# Altium footprint library NewLibrary.PcbLib: 126 footprints (part 3 of 8)
Each footprint in its own frame and in the unit in brackets; x right, y up, seen from the top. Pads: shape width x height; smd on the part's side, far side on the other; paste and mask are expansions set on the pad; w line width, h text height; cw(c..) or ccw(c..) is an arc to the next point about the centre after c.
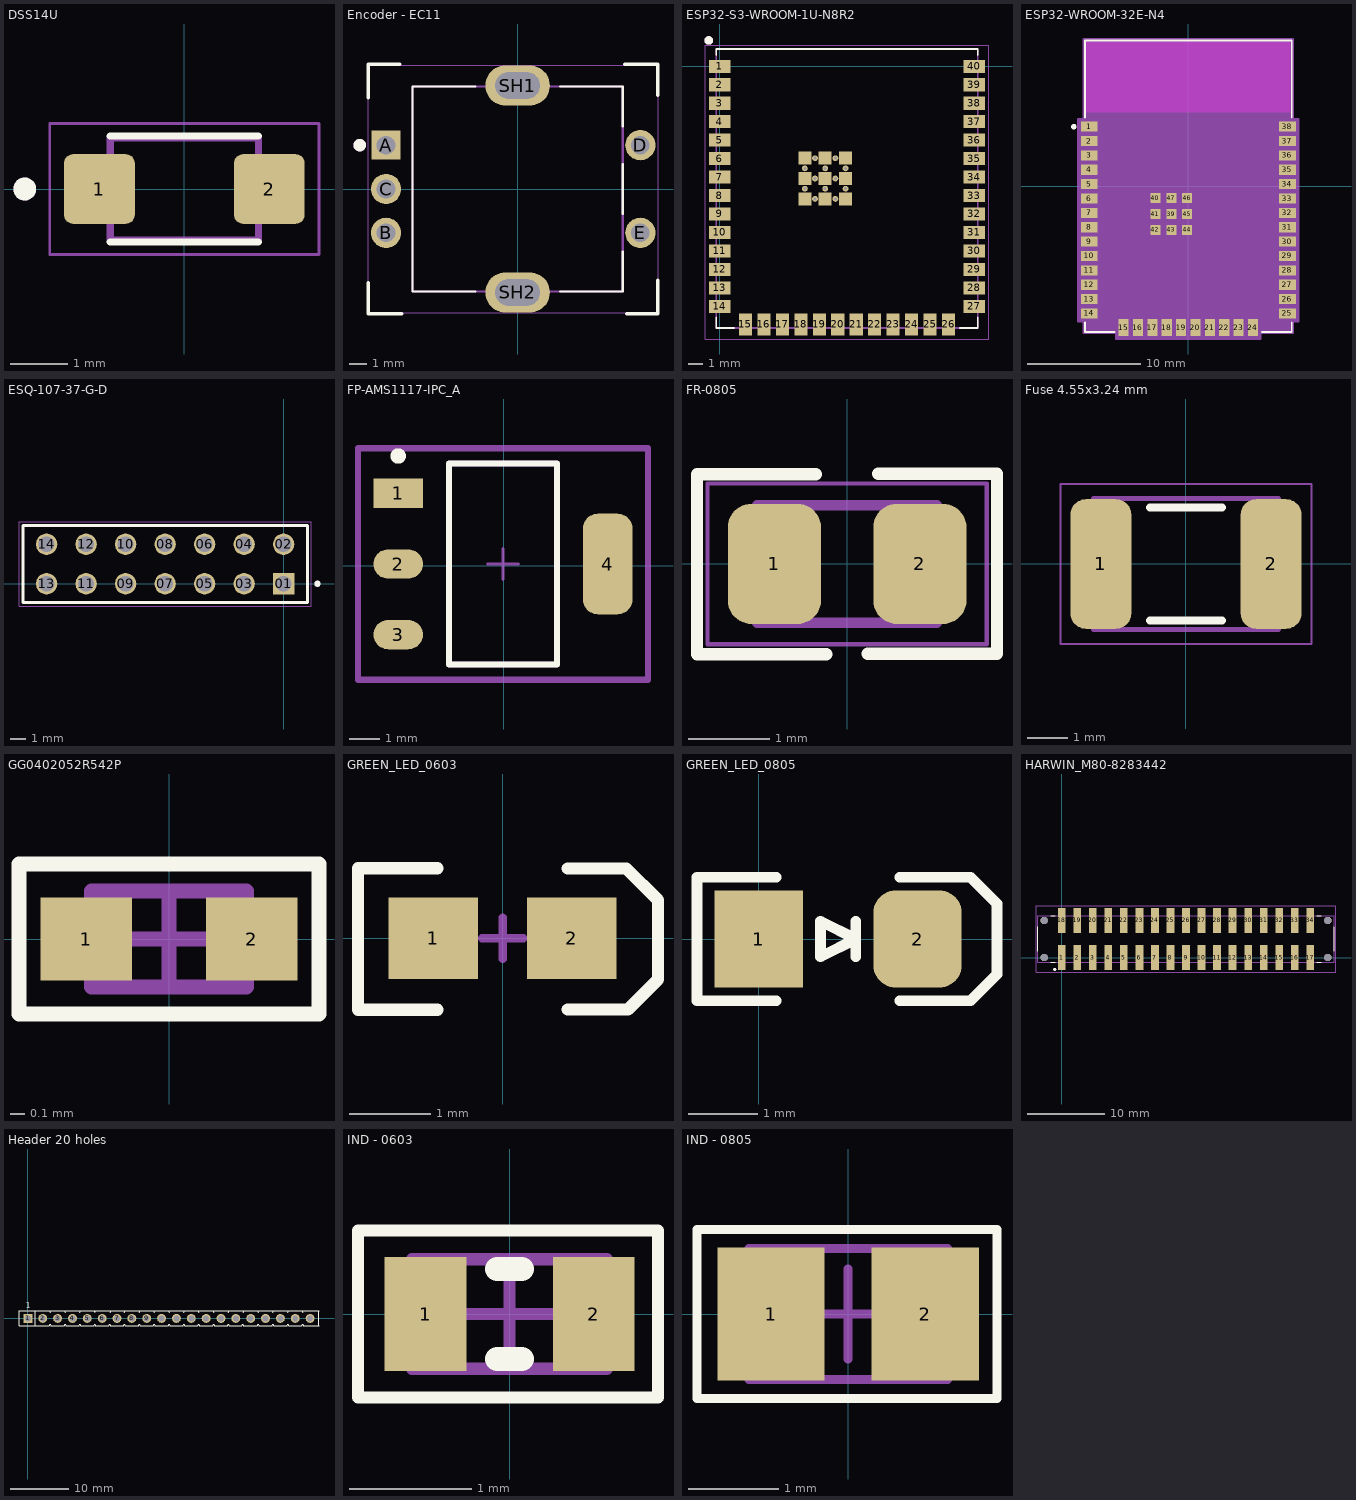
[diagram p2: the footprints below, top view; thin cyan lines are the x and y axes]

## DSS14U [mm] "Diode Schottky 40 V 1A Surface Mount SOD-123FL"
pads (2):
  rrect25% 1.24x1.22 smd: 1(-1.49,0) 2(1.49,0)
Top Overlay:
  circle w0.2: c-2.8,0 r0.1
  lines w0.127: -1.3,-0.93 1.3,-0.93 ; -1.3,0.93 1.3,0.93
Mechanical 13:
  circle w0.2: c-2.8,0 r0.1
  lines w0.127: -1.3,-0.9 -1.3,0.9 1.3,0.9 1.3,-0.9 -1.3,-0.9
Mechanical 15:
  lines w0.05: -2.36,-1.15 -2.36,1.15 2.36,1.15 2.36,-1.15 -2.36,-1.15
3D body "DSS14UTR.STEP": height 1.13, standoff 0.03, extent -1.749,-0.849 1.851,0.951

## Encoder - EC11 [mil]
pads (7):
  rect 65x65 / inner round 65 / far side rect 65x65 hole 42: A(-295.28,98.43)
  round 68 hole 42: B(-295.28,-98.43) C(-295.28,0) D(275.59,98.43) E(275.59,-98.43)
  oval 145x90 hole 60 slot 100 at 0 deg: SH1(0,232.28) SH2(0,-232.28)
Top Overlay:
  circle w20: c-354.33,98.43 r3.94
  lines w5: -95,-230.31 -236.22,-230.31 -236.22,230.31 -95,230.31 ; 95,-230.31 236.22,-230.31 236.22,-140.71 ; 95,230.31 236.22,230.31 236.22,140.71 ; 236.22,-56.14 236.22,56.14
  lines w8: -335,-210 -335,-280 -260,-280 ; -335,205 -335,280 -265,280 ; 240,280 315,280 315,210 ; 245,-280 315,-280 315,-205
Mechanical 13:
  circle w20: c-354.33,98.43 r3.94
  lines w5: -236.22,-230.31 236.22,-230.31 236.22,230.31 -236.22,230.31 -236.22,-230.31
Mechanical 15:
  lines w1.97: -334.8,-277.56 -334.8,277.56 315.12,277.56 315.12,-277.56 -334.8,-277.56
3D body "pec11r-4015f-s0024.SLDPRT": height 833.86, standoff -158.15, extent -303.15,-275.51 283.46,275.51

## ESP32-S3-WROOM-1U-N8R2 [mm] "SMD"
pads (61):
  rect 1.5x0.9 smd: 1(0,0) 2(0,-1.27) 3(0,-2.54) 4(0,-3.81) 5(0,-5.08) 6(0,-6.35) 7(0,-7.62) 8(0,-8.89) 9(0,-10.16) 10(0,-11.43) 11(0,-12.7) 12(0,-13.97) 13(0,-15.24) 14(0,-16.51) 27(17.5,-16.51) 28(17.5,-15.24) 29(17.5,-13.97) 30(17.5,-12.7) 31(17.5,-11.43) 32(17.5,-10.16) 33(17.5,-8.89) 34(17.5,-7.62) 35(17.5,-6.35) 36(17.5,-5.08) 37(17.5,-3.81) 38(17.5,-2.54) 39(17.5,-1.27) 40(17.5,0)
  rect 0.9x1.5 smd: 15(1.765,-17.76) 16(3.035,-17.76) 17(4.305,-17.76) 18(5.575,-17.76) 19(6.845,-17.76) 20(8.115,-17.76) 21(9.385,-17.76) 22(10.655,-17.76) 23(11.925,-17.76) 24(13.195,-17.76) 25(14.465,-17.76) 26(15.735,-17.76)
  rect 0.9x0.9 smd: 41_1(5.85,-6.32) 41_2(7.25,-6.32) 41_3(8.65,-6.32) 41_4(5.85,-7.72) 41_5(7.25,-7.72) 41_6(8.65,-7.72) 41_7(5.85,-9.12) 41_8(7.25,-9.12) 41_9(8.65,-9.12)
  round 0.4 hole 0.2 mask+0: 41_10(6.55,-6.32) 41_11(7.95,-6.32) 41_12(5.85,-7.02) 41_13(7.25,-7.02) 41_14(8.65,-7.02) 41_15(6.55,-7.72) 41_16(7.95,-7.72) 41_17(5.85,-8.42) 41_18(7.25,-8.42) 41_19(8.65,-8.42) 41_20(6.55,-9.12) 41_21(7.95,-9.12)
Top Overlay:
  circle w0.381: c-0.762,1.778 r0.1
  lines w0.127: -0.25,-17.28 -0.25,-18.01 0.995,-18.01 ; -0.25,0.77 -0.25,1.19 17.75,1.19 17.75,0.77 ; 16.505,-18.01 17.75,-18.01 17.75,-17.28
Mechanical 13:
  circle w0.381: c-0.762,1.778 r0.1
  lines w0.127: -0.25,-18.01 17.75,-18.01 17.75,1.19 -0.25,1.19 -0.25,-18.01
Mechanical 15:
  lines w0.05: -1,-18.76 -1,1.44 18.5,1.44 18.5,-18.76 -1,-18.76
3D body "step_temp.STEP": height 3.35, standoff 0, extent -0.25,-18.01 17.75,1.19

## ESP32-WROOM-32E-N4 [mil] "SMD"
pads (47):
  rect 59x35 smd paste+0 mask+0: 1(-344.5,207.1) 2(-344.5,157.1) 3(-344.5,107.1) 4(-344.5,57.1) 5(-344.5,7.1) 6(-344.5,-42.9) 7(-344.5,-92.9) 8(-344.5,-142.9) 9(-344.5,-192.9) 10(-344.5,-242.9) 11(-344.5,-292.9) 12(-344.5,-342.9) 13(-344.5,-392.9) 14(-344.5,-442.9) 25(344.5,-442.9) 26(344.5,-392.9) 27(344.5,-342.9) 28(344.5,-292.9) 29(344.5,-242.9) 30(344.5,-192.9) 31(344.5,-142.9) 32(344.5,-92.9) 33(344.5,-42.9) 34(344.5,7.1) 35(344.5,57.1) 36(344.5,107.1) 37(344.5,157.1) 38(344.5,207.1)
  rect 35x59 smd paste+0 mask+0: 15(-225,-492.15) 16(-175,-492.15) 17(-125,-492.15) 18(-75,-492.15) 19(-25,-492.15) 20(25,-492.15) 21(75,-492.15) 22(125,-492.15) 23(175,-492.15) 24(225,-492.15)
  rect 35x35 smd paste+0 mask+0: 39(-59.1,-96.9) 40(-114.2,-41.8) 41(-114.2,-96.9) 42(-114.2,-152) 43(-59.1,-152) 44(-4,-152) 45(-4,-96.9) 46(-4,-41.8) 47(-59.1,-41.8)
Top Overlay:
  circle w15: c-398,207 r1.97
  lines w6: -359.5,-473.5 -359.5,-507 -255.6,-507 ; -359.5,237.7 -359.5,507 359.5,507 359.5,237.7 ; 255.6,-507 359.5,-507 359.5,-473.5
Keep-Out Layer:
  region: 354.5,258 354.5,502 -354.5,502 -354.5,258
Mechanical 13:
  lines w1: -354.5,-502 -354.5,502 354.5,502 354.5,-502 -354.5,-502
Mechanical 15:
  region: -364.5,-512 -252.5,-512 -252.5,-531.65 252.5,-531.65 252.5,-512 364.5,-512 364.5,-470.4 384,-470.4 384,234.6 364.5,234.6 364.5,512 -364.5,512 -364.5,234.6 -384,234.6 -384,-470.4 -364.5,-470.4
  lines w6: -384,-470.4 -364.5,-470.4 -364.5,-512 -252.5,-512 -252.5,-531.65 252.5,-531.65 252.5,-512 364.5,-512 364.5,-470.4 384,-470.4 384,234.6 364.5,234.6 364.5,512 -364.5,512 -364.5,234.6 -384,234.6 -384,-470.4
3D body "ESP32-WROOM-32E-N4.STEP": height 128.95, standoff 1, extent -354.33,-501.97 354.33,501.97

## ESQ-107-37-G-D [mm] "CONN SOCKET 14POS 0.1 GOLD PCB"
pads (14):
  rect 1.37x1.37 hole 1.02: 01(0,0)
  round 1.37 hole 1.02: 02(0,2.54) 03(-2.54,0) 04(-2.54,2.54) 05(-5.08,0) 06(-5.08,2.54) 07(-7.62,0) 08(-7.62,2.54) 09(-10.16,0) 10(-10.16,2.54) 11(-12.7,0) 12(-12.7,2.54) 13(-15.24,0) 14(-15.24,2.54)
Top Overlay:
  circle w0.2: c2.175,0 r0.1
  lines w0.2: -16.765,-1.205 -16.765,3.745 1.525,3.745 1.525,-1.205 -16.765,-1.205
Mechanical 13:
  circle w0.2: c2.175,0 r0.1
  lines w0.1: -16.765,-1.205 -16.765,3.745 ; -16.765,-1.205 1.525,-1.205 ; -16.765,-1.205 -16.765,3.745 ; -16.765,3.745 1.525,3.745 ; -16.765,3.745 1.525,3.745 ; 1.525,-1.205 1.525,3.745 ; 1.525,-1.205 1.525,3.745
Mechanical 15:
  lines w0.05: -17.015,-1.455 -17.015,3.995 1.775,3.995 1.775,-1.455 -17.015,-1.455
3D body "ESQ-107-37-G-D.stp": height 11.53, standoff -1.81, extent -16.764,-1.27 1.524,3.81

## FP-AMS1117-IPC_A [mil]
pads (4):
  rect 63.16x37.49 smd paste+0 mask+0: 1(-134.66,92.16)
  rrect100% 63.16x37.49 smd paste+0 mask+0: 2(-134.66,2) 3(-134.66,-88.16)
  rrect59% 63.16x128.43 smd paste+0 mask+0: 4(132.66,2)
Top Overlay:
  circle w9.84: c-134.66,139.8 r4.92
  lines w7.87: -70,-126.05 -70,130.05 68,130.05 68,-126.05 -70,-126.05
Top 3D Body:
  lines w7.87: -70,-126.05 -70,130.05 68,130.05 68,-126.05 -70,-126.05
Board:
  lines w7.87: -185.93,-145.74 -185.93,149.74 183.93,149.74 183.93,-145.74 -185.93,-145.74
Top Assembly:
  lines w7.87: -185.93,-145.74 -185.93,149.74 183.93,149.74 183.93,-145.74 -185.93,-145.74
Top Component Center:
  lines w3.94: -20.68,2 18.68,2 ; -1,-17.68 -1,21.68
3D body "IC_Advanced_Monolithic_Systems_AMS1117-3_3_eec.STEP": height 10, standoff 0, extent -185.93,-145.74 183.93,149.74

## FR-0805 [mm] "SMD"
pads (2):
  rrect50% 1.14x1.47 smd: 1(-0.89,0) 2(0.89,0)
Top Overlay:
  lines w0.152: -0.381,1.097 -1.837,1.097 -1.837,-1.103 -0.254,-1.103 ; 0.251,-1.099 1.834,-1.099 1.834,1.1 0.378,1.1
Mechanical 13:
  lines w0.127: -1.1,-0.72 -1.1,0.72 1.1,0.72 1.1,-0.72 -1.1,-0.72
Mechanical 15:
  lines w0.05: -1.708,-0.983 -1.708,0.983 1.708,0.983 1.708,-0.983 -1.708,-0.983
3D body "step_temp.STEP": height 1.05, standoff 0, extent -1,-0.625 1,0.625

## Fuse 4.55x3.24 mm [mm]
pads (2):
  rrect50% 1.5x3.2 smd: 1(-2.1,0) 2(2.1,0)
Top Overlay:
  lines w0.2: -0.889,-1.397 0.889,-1.397 ; -0.889,1.397 0.889,1.397
Mechanical 13:
  lines w0.127: -2.275,-1.62 2.275,-1.62 2.275,1.62 -2.275,1.62 -2.275,-1.62
Mechanical 15:
  lines w0.05: -3.1,-1.977 -3.1,1.977 3.1,1.977 3.1,-1.977 -3.1,-1.977
3D body "step_temp.STEP": height 0.85, standoff 0, extent -2.275,-1.62 2.275,1.62

## GG0402052R542P [mm] "TVS DIODE 5VWM 15.5VC 0402"
height 0.55
pads (2):
  rect 0.62x0.56 smd: 1(-0.56,0) 2(0.56,0)
Top Overlay:
  lines w0.1: -1.016,-0.508 -1.016,0.508 1.016,0.508 1.016,-0.508 -1.016,-0.508
Mechanical 13:
  lines w0.1: -0.525,-0.325 -0.525,0.325 0.525,0.325 0.525,-0.325 -0.525,-0.325
Mechanical 15:
  lines w0.1: -0.325,0 0.325,0 ; 0,-0.325 0,0.325
3D body "GG0402052R542P.step": height 0.55, standoff 0, extent -0.525,-0.325 0.525,0.325

## GREEN_LED_0603 [mm] "SMD"
pads (2):
  rect 1.1x1 smd mask+0.1: 1(-0.853,-0.002) 2(0.847,-0.002)
Top Overlay:
  lines w0.15: -0.803,-0.878 -1.778,-0.878 -1.778,0.858 -0.803,0.858 ; 0.797,-0.875 1.538,-0.875 1.905,-0.508 1.905,0.467 1.516,0.856 0.797,0.856
Top Courtyard:
  lines w0.1: -0.256,-0.002 0.252,-0.002 ; -0.002,-0.256 -0.002,0.252
3D body "SMD_0603LED_GREEN.STEP": height 0.98, standoff 0.1, extent -0.808,-0.508 0.808,0.492

## GREEN_LED_0805 [mil] "SMD"
pads (2):
  rect 50x55 smd: 1(0,0)
  rrect50% 50x55 smd: 2(90,0)
Top Overlay:
  lines w6: 10,-35 -35,-35 -35,35 10,35 ; 55,-10 55,10 ; 80,-35 120,-35 135,-20 135,0 135,20 120,35 80,35 ; 35,-10 55,0 35,10 35,-10
3D body "User Library-led_0805-Green.step": height 43.31, standoff 0, extent 5.24,-24.6 84.76,24.6

## HARWIN_M80-8283442 [mm] "Connector 34 Pins"
pads (38):
  rect 1x3.2 smd: 1(-0.023,-0.012) 2(1.977,-0.012) 3(3.977,-0.012) 4(5.977,-0.012) 5(7.977,-0.012) 6(9.977,-0.012) 7(11.977,-0.012) 8(13.977,-0.012) 9(15.977,-0.012) 10(17.977,-0.012) 11(19.977,-0.012) 12(21.977,-0.012) 13(23.977,-0.012) 14(25.977,-0.012) 15(27.977,-0.012) 16(29.977,-0.012) 17(31.977,-0.012) 18(-0.023,4.788) 19(1.977,4.788) 20(3.977,4.788) 21(5.977,4.788) 22(7.977,4.788) 23(9.977,4.788) 24(11.977,4.788) 25(13.977,4.788) 26(15.977,4.788) 27(17.977,4.788) 28(19.977,4.788) 29(21.977,4.788) 30(23.977,4.788) 31(25.977,4.788) 32(27.977,4.788) 33(29.977,4.788) 34(31.977,4.788)
  round 0.95 hole 0.95 unplated: ""(-2.273,0.008) ""(-2.273,4.768) ""(34.227,0.008) ""(34.227,4.768)
Top Overlay:
  circle w0.2: c-0.912,-1.52 r0.1
  lines w0.127: -3.073,0.828 -3.073,3.948 ; -1.453,-0.592 -0.843,-0.592 ; -1.453,5.368 -0.843,5.368 ; 32.797,-0.592 33.407,-0.592 ; 32.797,5.368 33.407,5.368 ; 35.027,0.828 35.027,3.948
Mechanical 13:
  circle w0.2: c-0.912,-1.52 r0.1
  lines w0.127: -3.073,-0.592 35.027,-0.592 35.027,5.368 -3.073,5.368 -3.073,-0.592
Mechanical 15:
  lines w0.05: -3.323,-1.862 -3.323,6.638 35.277,6.638 35.277,-1.862 -3.323,-1.862
3D body "m80-8283442.x_t": height 9.1, standoff 0.14, extent -2.999,-1.419 34.901,6.143

## Header 20 holes [mm]
pads (20):
  rect 1.52x1.52 hole 1.02: 1(0,0)
  round 1.52 hole 1.02: 2(2.54,0) 3(5.08,0) 4(7.62,0) 5(10.16,0) 6(12.7,0) 7(15.24,0) 8(17.78,0) 9(20.32,0) 10(22.86,0) 11(25.4,0) 12(27.94,0) 13(30.48,0) 14(33.02,0) 15(35.56,0) 16(38.1,0) 17(40.64,0) 18(43.18,0) 19(45.72,0) 20(48.26,0)
Top Overlay:
  lines w0.2: -1.524,-1.27 1.27,-1.27 ; -1.52,-1.27 -1.52,1.27 0.635,1.27 1.016,1.27 3.683,1.27 3.81,1.016 3.937,1.27 6.223,1.27 6.35,1.016 6.477,1.27 8.763,1.27 8.89,1.016 9.017,1.27 11.303,1.27 11.43,1.016 11.557,1.27 13.97,1.27 14.097,1.016 14.224,1.27 16.383,1.27 16.51,1.016 16.637,1.27 18.923,1.27 19.05,1.016 19.177,1.27 21.463,1.27 21.59,1.016 21.717,1.27 24.003,1.27 24.13,1.016 24.257,1.27 26.543,1.27 26.67,1.016 26.797,1.27 29.083,1.27 29.21,1.016 29.337,1.27 31.623,1.27 31.75,1.016 31.877,1.27 34.163,1.27 34.29,1.016 34.417,1.27 36.703,1.27 36.83,1.016 36.957,1.27 39.243,1.27 39.37,1.016 39.497,1.27 41.783,1.27 41.91,1.016 42.037,1.27 44.323,1.27 44.45,1.016 44.577,1.27 46.863,1.27 46.99,1.016 47.117,1.27 47.625,1.27 49.53,1.27 49.784,1.27 ; 1.27,1.27 1.27,-1.27 ; 49.78,-1.27 49.78,1.27 ; 49.784,-1.27 47.117,-1.27 46.99,-1.016 46.863,-1.27 44.577,-1.27 44.45,-1.016 44.323,-1.27 42.037,-1.27 41.91,-1.016 41.783,-1.27 39.497,-1.27 39.37,-1.016 39.243,-1.27 36.83,-1.27 36.703,-1.016 36.576,-1.27 34.417,-1.27 34.29,-1.016 34.163,-1.27 31.877,-1.27 31.75,-1.016 31.623,-1.27 29.337,-1.27 29.21,-1.016 29.083,-1.27 26.797,-1.27 26.67,-1.016 26.543,-1.27 24.257,-1.27 24.13,-1.016 24.003,-1.27 21.717,-1.27 21.59,-1.016 21.463,-1.27 19.177,-1.27 19.05,-1.016 18.923,-1.27 16.637,-1.27 16.51,-1.016 16.383,-1.27 14.097,-1.27 13.97,-1.016 13.843,-1.27 11.557,-1.27 11.43,-1.016 11.303,-1.27 9.017,-1.27 8.89,-1.016 8.763,-1.27 6.477,-1.27 6.35,-1.016 6.223,-1.27 3.937,-1.27 3.81,-1.016 3.683,-1.27 3.175,-1.27 1.27,-1.27
  text "1" at -0.381,1.778 h1

## IC4518 [mm]

## IND - 0603 [mm] "Inductor SMD - 1608 - KEMET"
height 0.9
pads (2):
  rect 0.67x0.94 smd: 1(-0.69,0) 2(0.69,0)
Top Overlay:
  lines w0.1: -1.245,-0.686 -1.245,0.686 1.219,0.686 1.219,-0.686 -1.245,-0.686
  lines w0.2: -0.1,-0.37 0.1,-0.37 ; -0.1,0.37 0.1,0.37
Mechanical 13:
  lines w0.1: -0.8,-0.45 0.8,-0.45 0.8,0.45 -0.8,0.45 -0.8,-0.45
Mechanical 15:
  lines w0.1: -0.45,0 0.45,0 ; 0,-0.45 0,0.45
3D body "IND - 0603.step": height 0.9, standoff 0, extent -0.8,-0.45 0.8,0.45

## IND - 0805 [mm] "Inductor SMD - 2012 - KEMET"
height 1.05
pads (2):
  rect 1.19x1.47 smd: 1(-0.855,0) 2(0.855,0)
Top Overlay:
  lines w0.1: -1.676,-0.94 1.651,-0.94 1.651,0.94 -1.676,0.94 -1.676,-0.94
Mechanical 13:
  lines w0.1: -1.1,-0.725 -1.1,0.725 1.1,0.725 1.1,-0.725 -1.1,-0.725
Mechanical 15:
  lines w0.1: -0.5,0 0.5,0 ; 0,-0.5 0,0.5
3D body "IND - 0805.step": height 1.05, standoff 0, extent -1.1,-0.725 1.1,0.725